# Altium schematic symbol library graphic-simple.SchLib: 7 symbols
Pins are listed as number, name and electrical type; pins without a type are passive.

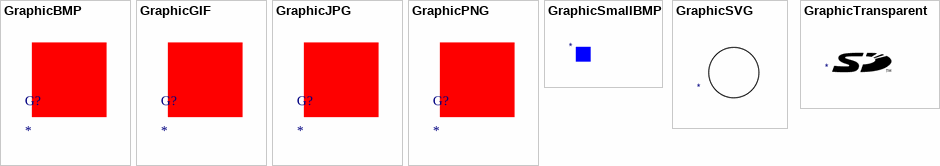
[diagram p0: symbols GraphicBMP to GraphicTransparent]

## GraphicBMP
designator G?

## GraphicGIF
designator G?

## GraphicJPG
designator G?

## GraphicPNG
designator G?

## GraphicSmallBMP
designator *  (value not drawn)

## GraphicSVG
designator *  (value not drawn)

## GraphicTransparent
designator *  (value not drawn)